# Altium schematic symbol library .IC.Schlib: 1 symbol
Pins are listed as number, name and electrical type; pins without a type are passive.

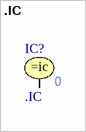
[diagram p0: symbol .IC]

## .IC
designator IC?  Initial Voltage: 0
Initial Condition
simulation model Model Name (Model Description)
pins: 1